# EAGLE library part SIM800L-MODULE (library Custom)
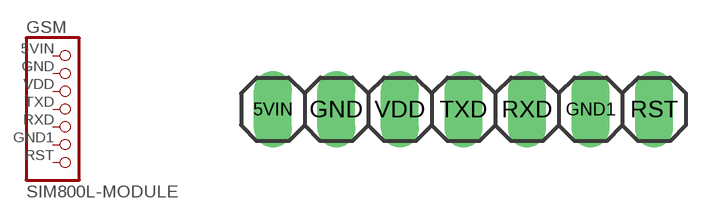
[diagram p2: symbol with the pads of SIM800L-MODULE; footprint SIM800L-MODULE]

Designator prefix GSM

## SIM800L-MODULE  [SIM800L-MODULE]
5VIN  1  pas
GND  2  pas
GND1  6  pas
RST  7  pas
RXD  5  pas
TXD  4  pas
VDD  3  pas

## Footprint SIM800L-MODULE (pad centres in mm)
PIN HEADER
drill 1.016 long: 5VIN -7.62,0; GND -5.08,0; GND1 5.08,0; RST 7.62,0; RXD 2.54,0; TXD 0,0; VDD -2.54,0